# Altium integrated library CAP 2220.IntLib: 1 symbol
Pins are listed as number, name and electrical type; pins without a type are passive.

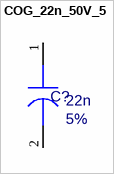
[diagram p0: symbol COG_22n_50V_5]

## COG_22n_50V_5
designator C?, comment value 22n  Tolerance: 5%  (hidden comment: CXD22N00J050BC)
Capacitor, 22nF 50V; ECAD_Revision: 2; Librarian: UK; PartNumber: CXD22N00J050BC; HelpURL: *; Item: *; Voltage: 50V
simulation model CAP (Capacitor)
footprint C2220 (AVX Rev. 2)
pins: 1, 2